# Altium schematic symbol library HEADER.SchLib: 5 symbols
Pins are listed as number, name and electrical type; pins without a type are passive.

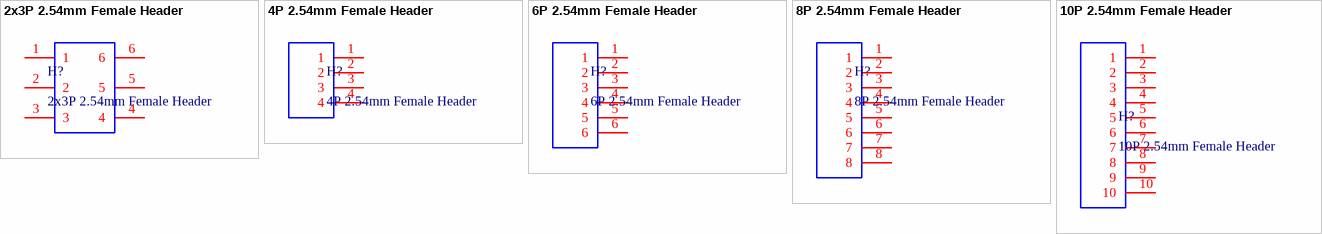
[diagram p0: symbols 2x3P 2.54mm Female Header to 10P 2.54mm Female Header]

## 2x3P 2.54mm Female Header
designator H?
2.54mm 2.54mm 3A 2 6P -40℃~+105℃ Through Hole 2x3P Top Square Hole Through Hole,P=2.54mm Female Headers ROHS; Manufacturer: HanElectricity; Mfr. Part: 2541FV-2x3P; LCSC Part: C18723054; Package: Through Hole,P=2.54mm; Holes Structure: 2x3P; Link: https://www.lcsc.com/product-detail/C18723054.html?s_z=n_HanElectricity%25202541FV-2x3P
footprint 2.54mm, 2x3P
pins: 1, 2, 3, 4, 5, 6

## 4P 2.54mm Female Header
designator H?
2.54mm 1 3A 4P Bronze -40℃~+105℃ Through Hole 1x4P Top Square Hole Through Hole,P=2.54mm Female Headers ROHS; Manufacturer: BOOMELE(Boom Precision Elec); Mfr. Part: 2.54-1*4P; LCSC Part: C2718488; Package: Through Hole,P=2.54mm; Holes Structure: 1x4P; Link: https://www.lcsc.com/product-detail/C2718488.html; Pitch: 2.54mm
footprint 4P, 2,54mm, FEMALE HEADER
pins: 1, 2, 3, 4

## 6P 2.54mm Female Header
designator H?
2.54mm 1 6P Through Hole 1x6P Through Hole,P=2.54mm Female Headers ROHS; Manufacturer: BOOMELE(Boom Precision Elec); Mfr. Part: 2.54-1*6P; LCSC Part: C40877; Package: Through Hole,P=2.54mm; Holes Structure: 1x6P; Link: https://www.lcsc.com/product-detail/C40877.html; Pitch: 2.54mm
footprint 6P, 2,54mm, FEMALE HEADER
pins: 1, 2, 3, 4, 5, 6

## 8P 2.54mm Female Header
designator H?
2.54mm 1 8P Through Hole 1x8P Through Hole,P=2.54mm Female Headers ROHS; Manufacturer: BOOMELE(Boom Precision Elec); Mfr. Part: 2.54-1*8P; LCSC Part: C27438; Package: Through Hole,P=2.54mm; Holes Structure: 1x8P; Link: https://www.lcsc.com/product-detail/C27438.html; Pitch: 2.54mm
footprint 8P, 2,54mm, FEMALE HEADER
pins: 1, 2, 3, 4, 5, 6, 7, 8

## 10P 2.54mm Female Header
designator H?
2.54mm 1 8P Through Hole 1x8P Through Hole,P=2.54mm Female Headers ROHS; Manufacturer: ZHOURI; Mfr. Part: PM2.54-1*10; Holes Structure: 1x10P; LCSC Part: C5116489; Package: Through Hole,P=2.54mm; Link: https://www.lcsc.com/product-detail/C5116489.html; Pitch: 2.54mm
footprint 10P, 2,54mm, FEMALE HEADER
pins: 1, 2, 3, 4, 5, 6, 7, 8, 9, 10